# Altium footprint library Vishay Draloric Ceramic Disc Capacitor.PcbLib: 220 footprints (part 7 of 14)
Each footprint in its own frame and in the unit in brackets; x right, y up, seen from the top. Pads: shape width x height; smd on the part's side, far side on the other; paste and mask are expansions set on the pad; w line width, h text height; cw(c..) or ccw(c..) is an arc to the next point about the centre after c.
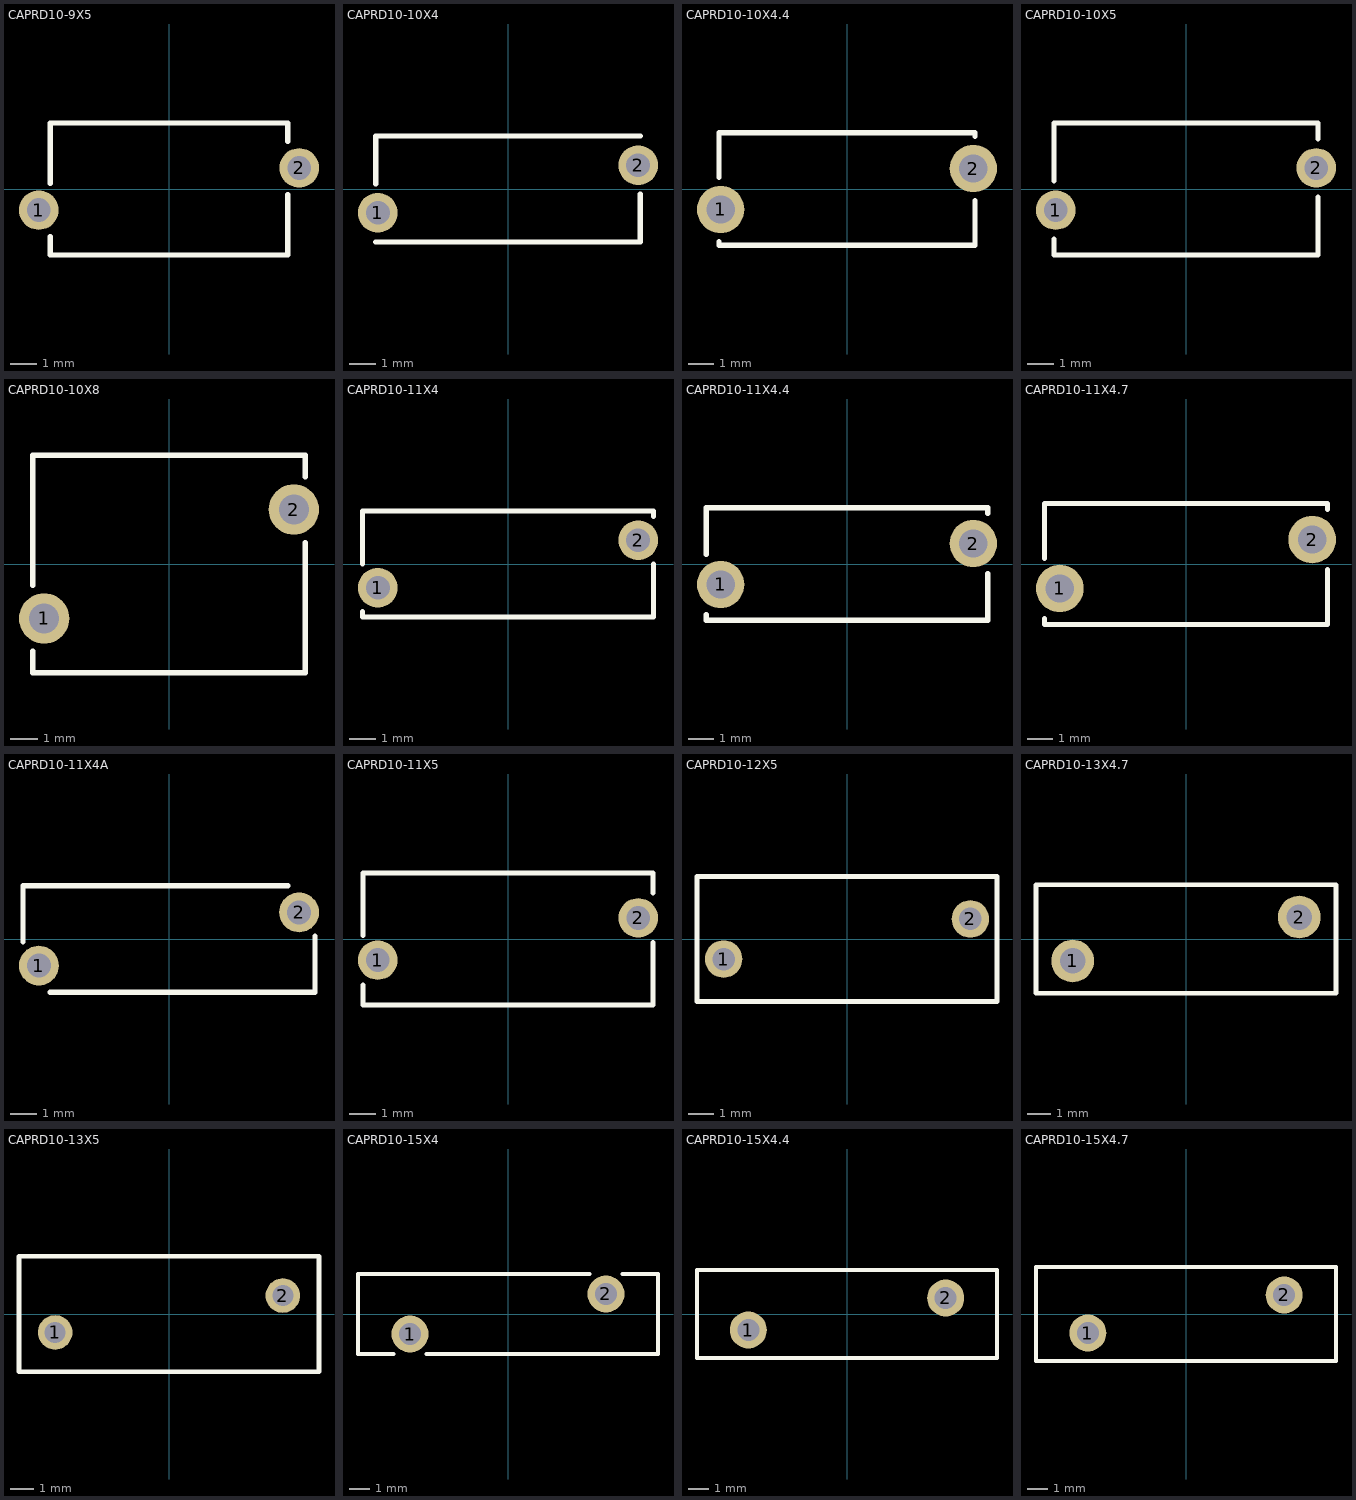
[diagram p6: the footprints below, top view; thin cyan lines are the x and y axes]

## CAPRD10-9X5 [mm] "Capacitor, Ceramic, Thru-Hole, Disc; Body 9 x 5 mm (LxW max) Pin Spacing 10 mm (typ)"
height 12
pads (2):
  round 1.5 hole 0.9: 1(-4.936,-0.8) 2(4.936,0.8)
Top Overlay:
  lines w0.2: -4.5,-1.81 -4.5,-2.5 4.5,-2.5 4.5,-0.21 ; -4.5,0.21 -4.5,2.5 4.5,2.5 4.5,1.81

## CAPRD10-10X4 [mm] "Capacitor, Ceramic, Thru-Hole, Disc; Body 10 x 4 mm (LxW max) Pin Spacing 10 mm (typ)"
height 13
pads (2):
  round 1.5 hole 0.9: 1(-4.918,-0.9) 2(4.918,0.9)
Top Overlay:
  lines w0.2: -5,-2 5,-2 5,-0.197 ; -5,0.197 -5,2 5,2

## CAPRD10-10X4.4 [mm] "Capacitor, Ceramic, Thru-Hole, Disc; Body 10 x 4.4 mm (LxW max) Pin Spacing 10 mm (typ)"
height 13
pads (2):
  round 1.85 hole 1.1: 1(-4.936,-0.8) 2(4.936,0.8)
Top Overlay:
  lines w0.2: -5,-2.06 -5,-2.2 5,-2.2 5,-0.46 ; -5,0.46 -5,2.2 5,2.2 5,2.06

## CAPRD10-10X5 [mm] "Capacitor, Ceramic, Thru-Hole, Disc; Body 10 x 5 mm (LxW max) Pin Spacing 10 mm (typ)"
height 13
pads (2):
  round 1.5 hole 0.9: 1(-4.936,-0.8) 2(4.936,0.8)
Top Overlay:
  lines w0.2: -5,-1.9 -5,-2.5 5,-2.5 5,-0.3 ; -5,0.3 -5,2.5 5,2.5 5,1.9

## CAPRD10-10X8 [mm] "Capacitor, Ceramic, Thru-Hole, Disc; Body 10 x 8 mm (LxW max) Pin Spacing 10 mm (typ)"
height 13
pads (2):
  round 1.85 hole 1.1: 1(-4.583,-2) 2(4.583,2)
Top Overlay:
  lines w0.2: -5,-3.21 -5,-4 5,-4 5,0.79 ; -5,-0.79 -5,4 5,4 5,3.21

## CAPRD10-11X4 [mm] "Capacitor, Ceramic, Thru-Hole, Disc; Body 11 x 4 mm (LxW max) Pin Spacing 10 mm (typ)"
height 14
pads (2):
  round 1.5 hole 0.9: 1(-4.918,-0.9) 2(4.918,0.9)
Top Overlay:
  lines w0.2: -5.5,-1.8 -5.5,-2 5.5,-2 5.5,0 ; -5.5,0 -5.5,2 5.5,2 5.5,1.8

## CAPRD10-11X4.4 [mm] "Capacitor, Ceramic, Thru-Hole, Disc; Body 11 x 4.4 mm (LxW max) Pin Spacing 10 mm (typ)"
height 14
pads (2):
  round 1.85 hole 1.1: 1(-4.936,-0.8) 2(4.936,0.8)
Top Overlay:
  lines w0.2: -5.5,-1.98 -5.5,-2.2 5.5,-2.2 5.5,-0.38 ; -5.5,0.38 -5.5,2.2 5.5,2.2 5.5,1.98

## CAPRD10-11X4.7 [mm] "Capacitor, Ceramic, Thru-Hole, Disc; Body 11 x 4.7 mm (LxW max) Pin Spacing 10 mm (typ)"
height 14
pads (2):
  round 1.85 hole 1.1: 1(-4.909,-0.95) 2(4.909,0.95)
Top Overlay:
  lines w0.2: -5.5,-2.113 -5.5,-2.35 5.5,-2.35 5.5,-0.213 ; -5.5,0.213 -5.5,2.35 5.5,2.35 5.5,2.113

## CAPRD10-11X4A [mm] "Capacitor, Ceramic, Thru-Hole, Disc; Body 11 x 4 mm (LxW max) Pin Spacing 10 mm (typ)"
height 14
pads (2):
  round 1.5 hole 0.9: 1(-4.899,-1) 2(4.899,1)
Top Overlay:
  lines w0.2: -5.5,-0.1 -5.5,2 4.485,2 ; -4.485,-2 5.5,-2 5.5,0.1

## CAPRD10-11X5 [mm] "Capacitor, Ceramic, Thru-Hole, Disc; Body 11 x 5 mm (LxW max) Pin Spacing 10 mm (typ)"
height 14
pads (2):
  round 1.5 hole 0.9: 1(-4.936,-0.8) 2(4.936,0.8)
Top Overlay:
  lines w0.2: -5.5,-1.74 -5.5,-2.5 5.5,-2.5 5.5,-0.14 ; -5.5,0.14 -5.5,2.5 5.5,2.5 5.5,1.74

## CAPRD10-12X5 [mm] "Capacitor, Ceramic, Thru-Hole, Disc; Body 12 x 5 mm (LxW max) Pin Spacing 10 mm (typ)"
height 15
pads (2):
  round 1.5 hole 0.9: 1(-4.936,-0.8) 2(4.936,0.8)
Top Overlay:
  lines w0.2: -6,-2.5 -6,2.5 6,2.5 6,-2.5 -6,-2.5

## CAPRD10-13X4.7 [mm] "Capacitor, Ceramic, Thru-Hole, Disc; Body 13 x 4.7 mm (LxW max) Pin Spacing 10 mm (typ)"
height 16
pads (2):
  round 1.85 hole 1.1: 1(-4.909,-0.95) 2(4.909,0.95)
Top Overlay:
  lines w0.2: -6.5,-2.35 -6.5,2.35 6.5,2.35 6.5,-2.35 -6.5,-2.35

## CAPRD10-13X5 [mm] "Capacitor, Ceramic, Thru-Hole, Disc; Body 13 x 5 mm (LxW max) Pin Spacing 10 mm (typ)"
height 16
pads (2):
  round 1.5 hole 0.9: 1(-4.936,-0.8) 2(4.936,0.8)
Top Overlay:
  lines w0.2: -6.5,-2.5 -6.5,2.5 6.5,2.5 6.5,-2.5 -6.5,-2.5

## CAPRD10-15X4 [mm] "Capacitor, Ceramic, Thru-Hole, Disc; Body 15 x 4 mm (LxW max) Pin Spacing 10 mm (typ)"
height 18
pads (2):
  round 1.85 hole 1.1: 1(-4.899,-1) 2(4.899,1)
Top Overlay:
  lines w0.2: -5.73,-2 -7.5,-2 -7.5,2 4.068,2 ; -4.068,-2 7.5,-2 7.5,2 5.73,2

## CAPRD10-15X4.4 [mm] "Capacitor, Ceramic, Thru-Hole, Disc; Body 15 x 4.4 mm (LxW max) Pin Spacing 10 mm (typ)"
height 18
pads (2):
  round 1.85 hole 1.1: 1(-4.936,-0.8) 2(4.936,0.8)
Top Overlay:
  lines w0.2: -7.5,-2.2 -7.5,2.2 7.5,2.2 7.5,-2.2 -7.5,-2.2

## CAPRD10-15X4.7 [mm] "Capacitor, Ceramic, Thru-Hole, Disc; Body 15 x 4.7 mm (LxW max) Pin Spacing 10 mm (typ)"
height 18
pads (2):
  round 1.85 hole 1.1: 1(-4.909,-0.95) 2(4.909,0.95)
Top Overlay:
  lines w0.2: -7.5,-2.35 -7.5,2.35 7.5,2.35 7.5,-2.35 -7.5,-2.35